# EAGLE library part USB (library ACB)
USB connector Type A/B 90/180
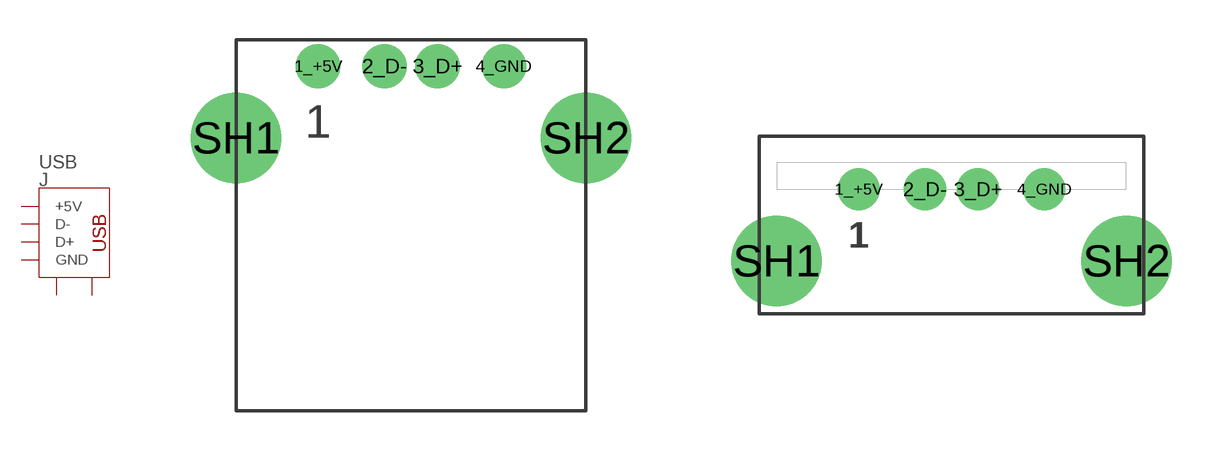
[diagram p4: symbol with the pads of USB_A_90; footprints USB_A_90, USB_A_180]

Designator prefix J

## USB_A_90 (VALUE: USB_A_90)  [USB_A_90]
1_+5V  +5V
2_D-  D-
3_D+  D+
4_GND  GND
SH1  GND_SH1
SH2  GND_SH2

## USB_A_180 (VALUE: USB_A_180)  [USB_A_180]
Pads as for USB_A_90

## USB_B_180  [USB_B_180]
Pads as for USB_A_90

## USB_B_90  [USB_B_90]
Pads as for USB_A_90

## Footprint USB_A_90 (pad centres in mm)
drill 1 pad 1.676: 1_+5V -3.5,2.7; 2_D- -1,2.7; 3_D+ 1,2.7; 4_GND 3.5,2.7
drill 2.4: SH1 -6.6,0; SH2 6.6,0

## Footprint USB_A_180 (pad centres in mm)
drill 1 pad 1.6: 1_+5V -3.5,2.7; 2_D- -1,2.7; 3_D+ 1,2.7; 4_GND 3.5,2.7
drill 2.4 pad 3.2: SH1 -6.6,0; SH2 6.6,0

## Footprint USB_B_180 (pad centres in mm)
drill 0.8 pad 1.4: 1_+5V 1.25,2.8; 2_D- -1.25,2.8; 3_D+ -1.25,-0.6; 4_GND 1.25,-0.6
drill 2.2 pad 2.8: SH1 -6,0; SH2 6,0

## Footprint USB_B_90 (pad centres in mm)
drill 0.8 pad 1.4: 1_+5V 1.25,4.7; 2_D- -1.25,4.7; 3_D+ -1.25,2.7; 4_GND 1.25,2.7
drill 2.2 pad 2.8: SH1 -6,0; SH2 6,0